# Altium schematic symbol library TPS22965.SchLib: 1 symbol
Pins are listed as number, name and electrical type; pins without a type are passive.

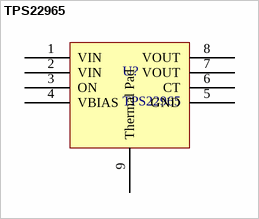
[diagram p0: symbol TPS22965]

## TPS22965
designator U?
pins: 1 VIN, 2 VIN, 3 ON, 4 VBIAS, 5 GND, 6 CT, 7 VOUT, 8 VOUT, 9 Thermal Pad